# EAGLE library part 691701340008B (library Wurth_Terminal_Blocks_Connectors_rev15d)
WR-TBL Serie 7013 – 3.81mm Close Horizontal PCB Header, 8 Pins=>Code : Con_TBL_Pluggable_3.81_PCB_THR_691701340008B <http://katalog.we-online.de/media/images/eican/Con_TBL_Pluggable_3.81_PCB_THR_6917013400xxB_pf2.jpg> Details see: http://katalog.we-online.de/en/em/691_701_340_0xxB Created 2014-06-19, Karrer Zheng 2014 (C) Würth Elektronik
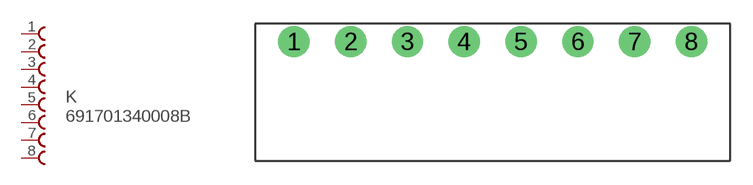
[diagram p341: symbol with the pads of 691701340008B; footprint 691701340008B]

Designator prefix K

## 691701340008B  [691701340008B]
1  1  pas
2  2  pas
3  3  pas
4  4  pas
5  5  pas
6  6  pas
7  7  pas
8  8  pas

## Footprint 691701340008B (pad centres in mm)
WR-TBL Serie 7013 – 3.81mm Close Horizontal PCB Header, 8 Pins
drill 1.4: 1 0,0; 2 3.81,0; 3 7.62,0; 4 11.43,0; 5 15.24,0; 6 19.05,0; 7 22.86,0; 8 26.67,0